# Altium integrated library Analog Devices RF IF Mixers and Multipliers.IntLib: 40 symbols (part 3 of 3)
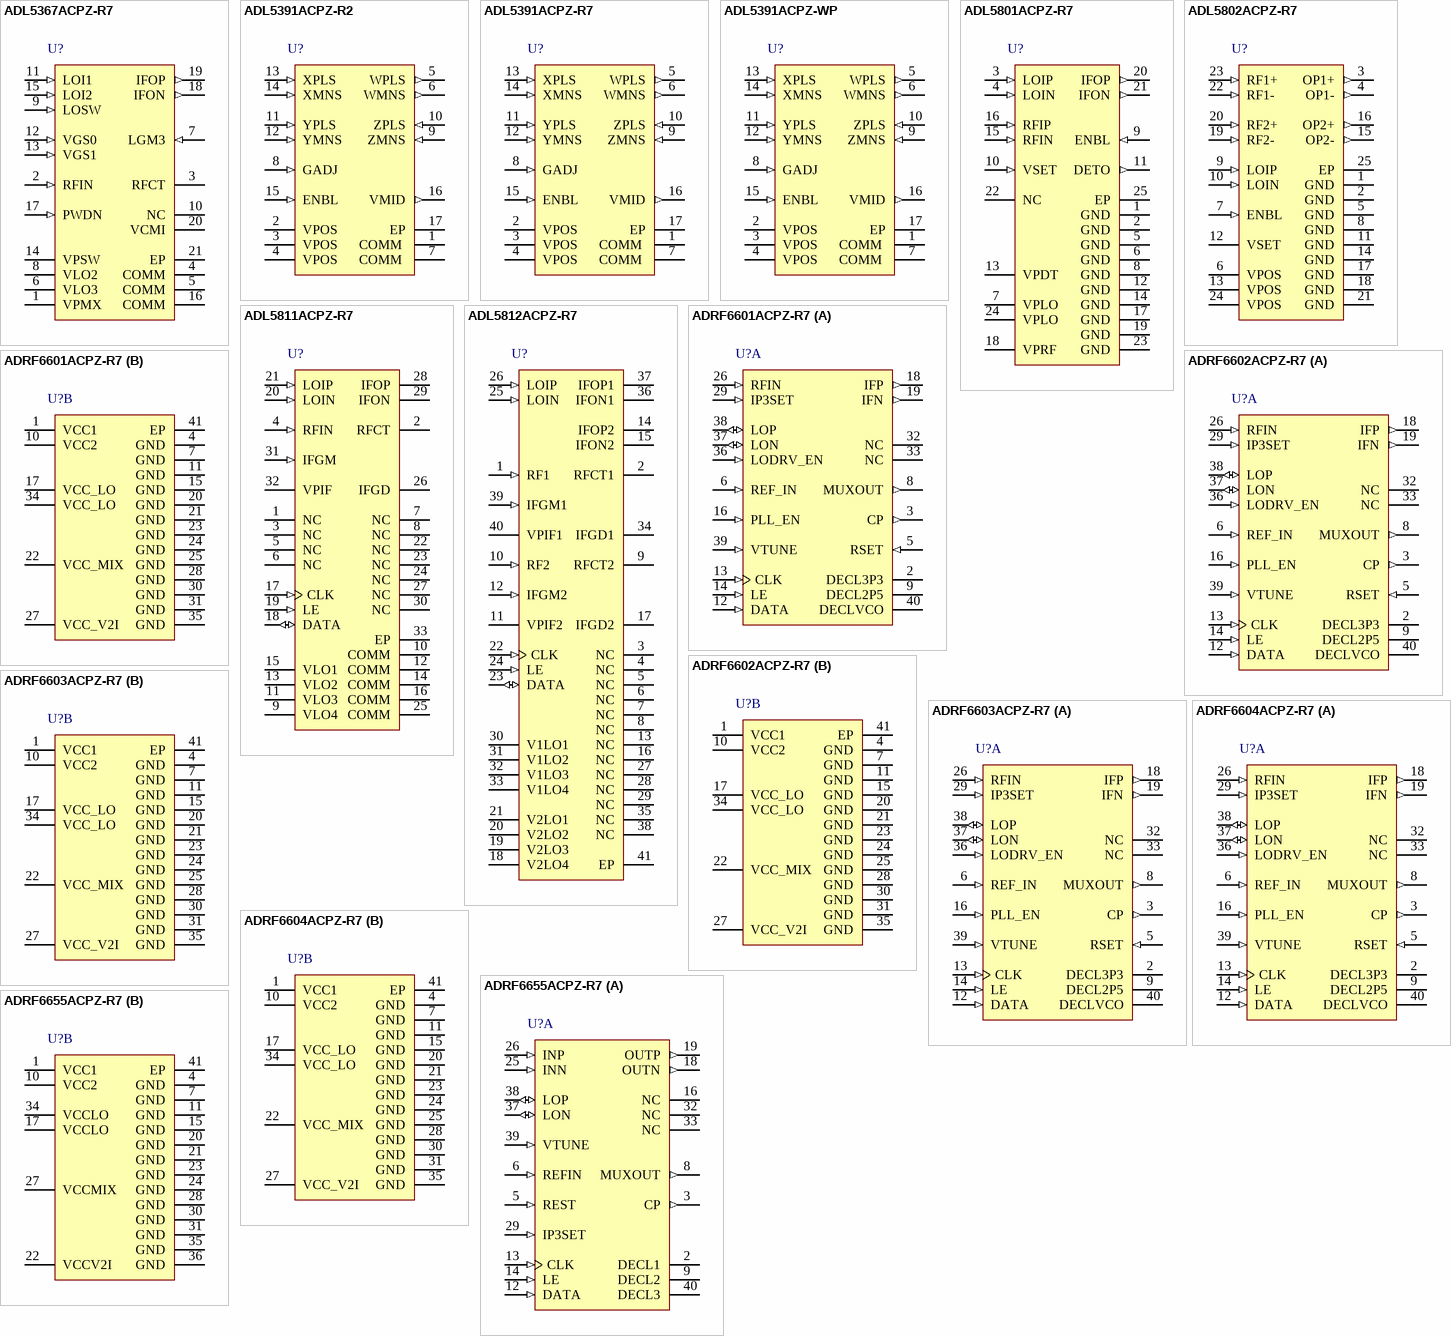
[diagram p3: symbols ADL5367ACPZ-R7 to ADRF6655ACPZ-R7]

## ADRF6602ACPZ-R7
designator U?
1550 MHz to 2150 MHz Rx Mixer with Integrated Fractional-N PLL and VCO, 6dB, 5.25V, 210mA, CP-40-1, Pb-Free, 750 Reel; RF Frequency (MHZ): 1000-3100; IF Frequency (MHz): dc to 500; LO Frequency (MHz): 1550 to 2150; IP3 (dBm): 29; P1dB (dBm): 12; NF (dB): 12dB; DatasheetVersion: Rev. C; PackageVersion: Oct-2006; PackageReference: CP-40-1; PackageDescription: 40-Lead Lead Frame Chip Scale Package [LFCSP_VQ]; Conversion Gain (dB): 6dB; Code_JEDEC: MO-220-VJJD-2; ComponentLink1Description: Manufacturer URL; ComponentLink1URL: www.analog.com; ComponentLink2Description: Datasheet; ComponentLink2URL: http://www.analog.com/static/imported-files/data_sheets/ADRF6602.pdf; ComponentLink3Description: Package Specification; ComponentLink3URL: http://www.analog.com/static/imported-files/packages/PKG_PDF/LFCSP(CP)/CP_40_1.pdf
footprint ADI-CP-40-1_N (QFN, 40-Leads, Body 6x6mm, Pitch 0.5mm, Thermal Pad 4.3x4.3mm, IPC Medium Density)
footprint ADI-CP-40-1_L (QFN, 40-Leads, Body 6x6mm, Pitch 0.5mm, Thermal Pad 4.3x4.3mm, IPC High Density)
footprint ADI-CP-40-1_M (QFN, 40-Leads, Body 6x6mm, Pitch 0.5mm, Thermal Pad 4.3x4.3mm, IPC Low Density)
part A pins: 2 DECL3P3 "Decoupling Node for the 3.3 V LDO. Connect a 0.1 uF capacitor between this pin and ground.", 3 CP (out) "Charge Pump Output Pin. Connect to VTUNE through the loop filter.", 5 RSET (in) "Charge Pump Current. The nominal charge pump current can be set to 250 uA, 500 uA, 750 uA, or 1 mA using Bit DB11 and Bit DB10 in Register 4 and by setting Bit DB18 in Register 4 to 0 (internal reference current). [see datasheet]", 6 REF_IN (in) "Reference Input. Nominal input level is 1 V p-p. Input range is 12 MHz to 160 MHz. This pin is internally dc- biased and should be ac-coupled.", 8 MUXOUT (out) "Multiplexer Output. This output can be programmed to provide the reference output signal or the lock detect signal. The output is selected by programming the appropriate register.", 9 DECL2P5 "Decoupling Node for 2.5 V LDO. Connect a 0.1 uF capacitor between this pin and ground.", 12 DATA (in) "Serial Data Input. The serial data input is loaded MSB first; the three LSBs are the control bits.", 13 CLK (in) "Serial Clock Input. The serial clock input is used to clock in the serial data to the registers. The datais latched into the 24-bit shift register on the CLK rising edge. [see datasheet]", 14 LE (in) "Load Enable. When the LE input pin goes high, the data stored in the shift register is loaded into one of the eight registers. [see datasheet]", 16 PLL_EN (in) "PLL Enable. Switch between internal PLL and external LO input. When this pin is logic high, themixer LO is automatically switched to the internal PLL and the internal PLL is powered up. [see datasheet]", 18 IFP (out) "Mixer IF Outputs. These outputs should be pulled to VCC_MIX with RF chokes.", 19 IFN (out) "Mixer IF Outputs. These outputs should be pulled to VCC_MIX with RF chokes.", 26 RFIN (in) "RF Input. Single-ended, 50 ohm.", 29 IP3SET (in) "Connect a resistor from this pin to a 5 V supply to adjust IIP3. Normally leave open.", 32 NC "NC = No Connect. Do not connect to this pin.", 33 NC "NC = No Connect. Do not connect to this pin.", 36 LODRV_EN (in) "LO Driver Enable. Together with Pin 16 (PLL_EN), this digital input pin determines whether the LOP and LON pins operate as inputs or outputs. [see datasheet]", 37 LON (io) "Local Oscillator Input/Output. The internally generated 1x LO is available on these pins. When internal LO generation is disabled, an external 1x LO can be applied to these pins.", 38 LOP (io) "Local Oscillator Input/Output. The internally generated 1x LO is available on these pins. When internal LO generation is disabled, an external 1x LO can be applied to these pins.", 39 VTUNE (in) "VCO Control Voltage Input. This pin is driven by the output of the loop filter. The nominal input voltage range on this pin is 1.5 V to 2.5 V.", 40 DECLVCO "Decoupling Node for VCO LDO. Connect a 100 pF capacitor and a 10 uF capacitor between this pin and ground."
part B pins: 1 VCC1 (power) "Power Supply for the 3.3 V LDO. Power supply voltage range is 4.75 V to 5.25 V. Each power supply pin should be decoupled with a 100 pF capacitor and a 0.1 uF capacitor located close to the pin", 4 GND (power) "Ground. Connect these pins to a low impedance ground plane.", 7 GND (power) "Ground. Connect these pins to a low impedance ground plane.", 10 VCC2 (power) "Power Supply for the 2.5 V LDO. Power supply voltage range is 4.75 V to 5.25 V. Each power supply pin should be decoupled with a 100 pF capacitor and a 0.1 uF capacitor located close to the pin. [see datasheet]", 11 GND (power) "Ground. Connect these pins to a low impedance ground plane.", 15 GND (power) "Ground. Connect these pins to a low impedance ground plane.", 17 VCC_LO (power) "Power Supply. Power supply voltage range is 4.75 V to 5.25 V. Each power supply pin should be decoupled with a 100 pF capacitor and a 0.1 uF capacitor located close to the pin.", 20 GND (power) "Ground. Connect these pins to a low impedance ground plane.", 21 GND (power) "Ground. Connect these pins to a low impedance ground plane.", 22 VCC_MIX (power) "Power Supply. Power supply voltage range is 4.75 V to 5.25 V. Each power supply pin should be decoupled with a 100 pF capacitor and a 0.1 uF capacitor located close to the pin.", 23 GND (power) "Ground. Connect these pins to a low impedance ground plane.", 24 GND (power) "Ground. Connect these pins to a low impedance ground plane.", 25 GND (power) "Ground. Connect these pins to a low impedance ground plane.", 27 VCC_V2I (power) "Power Supply. Power supply voltage range is 4.75 V to 5.25 V. Each power supply pin should be decoupled with a 100 pF capacitor and a 0.1 uF capacitor located close to the pin.", 28 GND (power) "Ground. Connect these pins to a low impedance ground plane.", 30 GND (power) "Ground. Connect these pins to a low impedance ground plane.", 31 GND (power) "Ground. Connect these pins to a low impedance ground plane.", 34 VCC_LO (power) "Power Supply. Power supply voltage range is 4.75 V to 5.25 V. Each power supply pin should be decoupled with a 100 pF capacitor and a 0.1 uF capacitor located close to the pin.", 35 GND (power) "Ground. Connect these pins to a low impedance ground plane.", 41 EP (power) "Exposed Paddle. The exposed paddle should be soldered to a low impedance ground plane."

## ADRF6603ACPZ-R7
designator U?
2100 MHz to 2600 MHz Rx Mixer with Integrated Fractional-N PLL and VCO, 6.9dB, 5.25V, 261mA, CP-40-1, Pb-Free, 750 Reel; RF Frequency (MHZ): 1100-3200; IF Frequency (MHz): dc to 500; LO Frequency (MHz): 2100 to 2600; IP3 (dBm): 27; P1dB (dBm): 14.6; NF (dB): 14.2dB; DatasheetVersion: Rev. A; PackageVersion: Oct-2006; PackageReference: CP-40-1; PackageDescription: 40-Lead Lead Frame Chip Scale Package [LFCSP_VQ]; Conversion Gain (dB): 6.9dB; Code_JEDEC: MO-220-VJJD-2; ComponentLink1Description: Manufacturer URL; ComponentLink1URL: www.analog.com; ComponentLink2Description: Datasheet; ComponentLink2URL: http://www.analog.com/static/imported-files/data_sheets/ADRF6603.pdf; ComponentLink3Description: Package Specification; ComponentLink3URL: http://www.analog.com/static/imported-files/packages/PKG_PDF/LFCSP(CP)/CP_40_1.pdf
footprint ADI-CP-40-1_N (QFN, 40-Leads, Body 6x6mm, Pitch 0.5mm, Thermal Pad 4.3x4.3mm, IPC Medium Density)
footprint ADI-CP-40-1_L (QFN, 40-Leads, Body 6x6mm, Pitch 0.5mm, Thermal Pad 4.3x4.3mm, IPC High Density)
footprint ADI-CP-40-1_M (QFN, 40-Leads, Body 6x6mm, Pitch 0.5mm, Thermal Pad 4.3x4.3mm, IPC Low Density)
part A pins: 2 DECL3P3 "Decoupling Node for the 3.3 V LDO. Connect a 0.1 uF capacitor between this pin and ground.", 3 CP (out) "Charge Pump Output Pin. Connect to VTUNE through the loop filter.", 5 RSET (in) "Charge Pump Current. The nominal charge pump current can be set to 250 uA, 500 uA, 750 uA, or 1 mA using Bit DB11 and Bit DB10 in Register 4 and by setting Bit DB18 in Register 4 to 0 (internal reference current). [see datasheet]", 6 REF_IN (in) "Reference Input. Nominal input level is 1 V p-p. Input range is 12 MHz to 160 MHz. This pin is internally dc- biased and should be ac-coupled.", 8 MUXOUT (out) "Multiplexer Output. This output can be programmed to provide the reference output signal or the lock detect signal. The output is selected by programming the appropriate register.", 9 DECL2P5 "Decoupling Node for 2.5 V LDO. Connect a 0.1 uF capacitor between this pin and ground.", 12 DATA (in) "Serial Data Input. The serial data input is loaded MSB first; the three LSBs are the control bits.", 13 CLK (in) "Serial Clock Input. The serial clock input is used to clock in the serial data to the registers. The datais latched into the 24-bit shift register on the CLK rising edge. [see datasheet]", 14 LE (in) "Load Enable. When the LE input pin goes high, the data stored in the shift register is loaded into one of the eight registers. [see datasheet]", 16 PLL_EN (in) "PLL Enable. Switch between internal PLL and external LO input. When this pin is logic high, themixer LO is automatically switched to the internal PLL and the internal PLL is powered up. [see datasheet]", 18 IFP (out) "Mixer IF Outputs. These outputs should be pulled to VCC_MIX with RF chokes.", 19 IFN (out) "Mixer IF Outputs. These outputs should be pulled to VCC_MIX with RF chokes.", 26 RFIN (in) "RF Input. Single-ended, 50 ohm.", 29 IP3SET (in) "Connect a resistor from this pin to a 5 V supply to adjust IIP3. Normally leave open.", 32 NC "NC = No Connect. Do not connect to this pin.", 33 NC "NC = No Connect. Do not connect to this pin.", 36 LODRV_EN (in) "LO Driver Enable. Together with Pin 16 (PLL_EN), this digital input pin determines whether the LOP and LON pins operate as inputs or outputs. [see datasheet]", 37 LON (io) "Local Oscillator Input/Output. The internally generated 1x LO is available on these pins. When internal LO generation is disabled, an external 1x LO can be applied to these pins.", 38 LOP (io) "Local Oscillator Input/Output. The internally generated 1x LO is available on these pins. When internal LO generation is disabled, an external 1x LO can be applied to these pins.", 39 VTUNE (in) "VCO Control Voltage Input. This pin is driven by the output of the loop filter. The nominal input voltage range on this pin is 1.5 V to 2.5 V.", 40 DECLVCO "Decoupling Node for VCO LDO. Connect a 100 pF capacitor and a 10 uF capacitor between this pin and ground."
part B pins: 1 VCC1 (power) "Power Supply for the 3.3 V LDO. Power supply voltage range is 4.75 V to 5.25 V. Each power supply pin should be decoupled with a 100 pF capacitor and a 0.1 uF capacitor located close to the pin", 4 GND (power) "Ground. Connect these pins to a low impedance ground plane.", 7 GND (power) "Ground. Connect these pins to a low impedance ground plane.", 10 VCC2 (power) "Power Supply for the 2.5 V LDO. Power supply voltage range is 4.75 V to 5.25 V. Each power supply pin should be decoupled with a 100 pF capacitor and a 0.1 uF capacitor located close to the pin. [see datasheet]", 11 GND (power) "Ground. Connect these pins to a low impedance ground plane.", 15 GND (power) "Ground. Connect these pins to a low impedance ground plane.", 17 VCC_LO (power) "Power Supply. Power supply voltage range is 4.75 V to 5.25 V. Each power supply pin should be decoupled with a 100 pF capacitor and a 0.1 uF capacitor located close to the pin.", 20 GND (power) "Ground. Connect these pins to a low impedance ground plane.", 21 GND (power) "Ground. Connect these pins to a low impedance ground plane.", 22 VCC_MIX (power) "Power Supply. Power supply voltage range is 4.75 V to 5.25 V. Each power supply pin should be decoupled with a 100 pF capacitor and a 0.1 uF capacitor located close to the pin.", 23 GND (power) "Ground. Connect these pins to a low impedance ground plane.", 24 GND (power) "Ground. Connect these pins to a low impedance ground plane.", 25 GND (power) "Ground. Connect these pins to a low impedance ground plane.", 27 VCC_V2I (power) "Power Supply. Power supply voltage range is 4.75 V to 5.25 V. Each power supply pin should be decoupled with a 100 pF capacitor and a 0.1 uF capacitor located close to the pin.", 28 GND (power) "Ground. Connect these pins to a low impedance ground plane.", 30 GND (power) "Ground. Connect these pins to a low impedance ground plane.", 31 GND (power) "Ground. Connect these pins to a low impedance ground plane.", 34 VCC_LO (power) "Power Supply. Power supply voltage range is 4.75 V to 5.25 V. Each power supply pin should be decoupled with a 100 pF capacitor and a 0.1 uF capacitor located close to the pin.", 35 GND (power) "Ground. Connect these pins to a low impedance ground plane.", 41 EP (power) "Exposed Paddle. The exposed paddle should be soldered to a low impedance ground plane."

## ADRF6604ACPZ-R7
designator U?
2500 MHz to 2900 MHz Rx Mixer with Integrated Fractional-N PLL and VCO, 6.3dB, 5.25V, 280mA, CP-40-1, Pb-Free, 750 Reel; RF Frequency (MHZ): 1200-3600; IF Frequency (MHz): dc to 500; LO Frequency (MHz): 2500 to 2900; LO Drive (dBm): 6; IP3 (dBm): 27.5; P1dB (dBm): 14.6; NF (dB): 14.2dB; DatasheetVersion: Rev. A; PackageVersion: Oct-2006; PackageReference: CP-40-1; PackageDescription: 40-Lead Lead Frame Chip Scale Package [LFCSP_VQ]; Conversion Gain (dB): 6.3dB; Code_JEDEC: MO-220-VJJD-2; ComponentLink1Description: Manufacturer URL; ComponentLink1URL: www.analog.com; ComponentLink2Description: Datasheet; ComponentLink2URL: http://www.analog.com/static/imported-files/data_sheets/ADRF6604.pdf; ComponentLink3Description: Package Specification; ComponentLink3URL: http://www.analog.com/static/imported-files/packages/PKG_PDF/LFCSP(CP)/CP_40_1.pdf
footprint ADI-CP-40-1_N (QFN, 40-Leads, Body 6x6mm, Pitch 0.5mm, Thermal Pad 4.3x4.3mm, IPC Medium Density)
footprint ADI-CP-40-1_L (QFN, 40-Leads, Body 6x6mm, Pitch 0.5mm, Thermal Pad 4.3x4.3mm, IPC High Density)
footprint ADI-CP-40-1_M (QFN, 40-Leads, Body 6x6mm, Pitch 0.5mm, Thermal Pad 4.3x4.3mm, IPC Low Density)
part A pins: 2 DECL3P3 "Decoupling Node for the 3.3 V LDO. Connect a 0.1 uF capacitor between this pin and ground.", 3 CP (out) "Charge Pump Output Pin. Connect to VTUNE through the loop filter.", 5 RSET (in) "Charge Pump Current. The nominal charge pump current can be set to 250 uA, 500 uA, 750 uA, or 1 mA using Bit DB11 and Bit DB10 in Register 4 and by setting Bit DB18 in Register 4 to 0 (internal reference current). [see datasheet]", 6 REF_IN (in) "Reference Input. Nominal input level is 1 V p-p. Input range is 12 MHz to 160 MHz. This pin is internally dc- biased and should be ac-coupled.", 8 MUXOUT (out) "Multiplexer Output. This output can be programmed to provide the reference output signal or the lock detect signal. The output is selected by programming the appropriate register.", 9 DECL2P5 "Decoupling Node for 2.5 V LDO. Connect a 0.1 uF capacitor between this pin and ground.", 12 DATA (in) "Serial Data Input. The serial data input is loaded MSB first; the three LSBs are the control bits.", 13 CLK (in) "Serial Clock Input. The serial clock input is used to clock in the serial data to the registers. The datais latched into the 24-bit shift register on the CLK rising edge. [see datasheet]", 14 LE (in) "Load Enable. When the LE input pin goes high, the data stored in the shift register is loaded into one of the eight registers. [see datasheet]", 16 PLL_EN (in) "PLL Enable. Switch between internal PLL and external LO input. When this pin is logic high, themixer LO is automatically switched to the internal PLL and the internal PLL is powered up. [see datasheet]", 18 IFP (out) "Mixer IF Outputs. These outputs should be pulled to VCC_MIX with RF chokes.", 19 IFN (out) "Mixer IF Outputs. These outputs should be pulled to VCC_MIX with RF chokes.", 26 RFIN (in) "RF Input. Single-ended, 50 ohm.", 29 IP3SET (in) "Connect a resistor from this pin to a 5 V supply to adjust IIP3. Normally leave open.", 32 NC "NC = No Connect. Do not connect to this pin.", 33 NC "NC = No Connect. Do not connect to this pin.", 36 LODRV_EN (in) "LO Driver Enable. Together with Pin 16 (PLL_EN), this digital input pin determines whether the LOP and LON pins operate as inputs or outputs. [see datasheet]", 37 LON (io) "Local Oscillator Input/Output. The internally generated 1x LO is available on these pins. When internal LO generation is disabled, an external 1x LO can be applied to these pins.", 38 LOP (io) "Local Oscillator Input/Output. The internally generated 1x LO is available on these pins. When internal LO generation is disabled, an external 1x LO can be applied to these pins.", 39 VTUNE (in) "VCO Control Voltage Input. This pin is driven by the output of the loop filter. The nominal input voltage range on this pin is 1.5 V to 2.5 V.", 40 DECLVCO "Decoupling Node for VCO LDO. Connect a 100 pF capacitor and a 10 uF capacitor between this pin and ground."
part B pins: 1 VCC1 (power) "Power Supply for the 3.3 V LDO. Power supply voltage range is 4.75 V to 5.25 V. Each power supply pin should be decoupled with a 100 pF capacitor and a 0.1 uF capacitor located close to the pin", 4 GND (power) "Ground. Connect these pins to a low impedance ground plane.", 7 GND (power) "Ground. Connect these pins to a low impedance ground plane.", 10 VCC2 (power) "Power Supply for the 2.5 V LDO. Power supply voltage range is 4.75 V to 5.25 V. Each power supply pin should be decoupled with a 100 pF capacitor and a 0.1 uF capacitor located close to the pin. [see datasheet]", 11 GND (power) "Ground. Connect these pins to a low impedance ground plane.", 15 GND (power) "Ground. Connect these pins to a low impedance ground plane.", 17 VCC_LO (power) "Power Supply. Power supply voltage range is 4.75 V to 5.25 V. Each power supply pin should be decoupled with a 100 pF capacitor and a 0.1 uF capacitor located close to the pin.", 20 GND (power) "Ground. Connect these pins to a low impedance ground plane.", 21 GND (power) "Ground. Connect these pins to a low impedance ground plane.", 22 VCC_MIX (power) "Power Supply. Power supply voltage range is 4.75 V to 5.25 V. Each power supply pin should be decoupled with a 100 pF capacitor and a 0.1 uF capacitor located close to the pin.", 23 GND (power) "Ground. Connect these pins to a low impedance ground plane.", 24 GND (power) "Ground. Connect these pins to a low impedance ground plane.", 25 GND (power) "Ground. Connect these pins to a low impedance ground plane.", 27 VCC_V2I (power) "Power Supply. Power supply voltage range is 4.75 V to 5.25 V. Each power supply pin should be decoupled with a 100 pF capacitor and a 0.1 uF capacitor located close to the pin.", 28 GND (power) "Ground. Connect these pins to a low impedance ground plane.", 30 GND (power) "Ground. Connect these pins to a low impedance ground plane.", 31 GND (power) "Ground. Connect these pins to a low impedance ground plane.", 34 VCC_LO (power) "Power Supply. Power supply voltage range is 4.75 V to 5.25 V. Each power supply pin should be decoupled with a 100 pF capacitor and a 0.1 uF capacitor located close to the pin.", 35 GND (power) "Ground. Connect these pins to a low impedance ground plane.", 41 EP (power) "Exposed Paddle. The exposed paddle should be soldered to a low impedance ground plane."

## ADRF6655ACPZ-R7
designator U?
Broadband Up/Downconverting Mixer with Integrated Fractional-N PLL and VCO, 6dB, 5.25V, 285mA, CP-40-1, Pb-Free, 750 Reel; RF Frequency (MHZ): 100 to 2500; IF Frequency (MHz): LF to 2200; LO Frequency (MHz): 1050 to 2300; IP3 (dBm): 29; P1dB (dBm): 12; NF (dB): 12dB; DatasheetVersion: Rev. 0; PackageVersion: Oct-2006; PackageReference: CP-40-1; PackageDescription: 40-Lead Lead Frame Chip Scale Package [LFCSP_VQ]; Conversion Gain (dB): 6dB; Code_JEDEC: MO-220-VJJD-2; ComponentLink1Description: Manufacturer URL; ComponentLink1URL: www.analog.com; ComponentLink2Description: Datasheet; ComponentLink2URL: http://www.analog.com/static/imported-files/data_sheets/ADRF6655.pdf; ComponentLink3Description: Package Specification; ComponentLink3URL: http://www.analog.com/static/imported-files/packages/PKG_PDF/LFCSP(CP)/CP_40_1.pdf
footprint ADI-CP-40-1_N (QFN, 40-Leads, Body 6x6mm, Pitch 0.5mm, Thermal Pad 4.3x4.3mm, IPC Medium Density)
footprint ADI-CP-40-1_L (QFN, 40-Leads, Body 6x6mm, Pitch 0.5mm, Thermal Pad 4.3x4.3mm, IPC High Density)
footprint ADI-CP-40-1_M (QFN, 40-Leads, Body 6x6mm, Pitch 0.5mm, Thermal Pad 4.3x4.3mm, IPC Low Density)
part A pins: 2 DECL1 "Decoupling Node for 3.3 V LDO. Pin should be decoupled with 100 pF, 0.1 uF, and 10 uF capacitors located close to the pin.", 3 CP (out) "Charge Pump Output Pin. Connect this pin to VTUNE through the loop filter", 5 REST (in) "Charge Pump Current. The nominal charge pump current can be set to either 250 uA, 500 uA, 750 uA,  or 1 mA using DB10 and DB11 of Register 4 and by setting DB18 to 0 (internal reference current). [see datasheet]", 6 REFIN (in) "Reference Input. Nominal input level is 1 V p-p. Input range is 10 MHz to 160 MHz. This pin must be  ac-coupled.", 8 MUXOUT (out) "Multiplexer Output. This output allows either a digital lock detect, a voltage proportional to temperature, or a buffered, frequency-scaled reference signal to be accessed externally. [see datasheet]", 9 DECL2 "Decoupling Node for 2.5 V LDO. Pin should be decoupled with 100 pF, 0.1 uF, and 10 uF capacitors located close to the pin.", 12 DATA (in) "Serial Data Input. The serial data input is loaded MSB first with the three LSBs being the control bits.", 13 CLK (in) "Serial Clock Input. This serial clock input is used to clock in the serial data to the registers. The data  is latched into the 24-bit shift register on the CLK rising edge. [see datasheet]", 14 LE (in) "Load Enable. When the LE input pin goes high, the data stored in the shift registers is loaded into one of the six registers, the relevant latch being selected by the first three control bits of the 24-bit word. [see datasheet]", 16 NC "No Connection.", 18 OUTN (out) "Mixer IF Outputs. These pins should be pulled to VCC with RF chokes.", 19 OUTP (out) "Mixer IF Outputs. These pins should be pulled to VCC with RF chokes.", 25 INN (in) "Mixer RF Inputs. Differential RF Inputs. Internally matched to 50 ohm. This pin must be ac-coupled.", 26 INP (in) "Mixer RF Inputs. Differential RF Inputs. Internally matched to 50 ohm. This pin must be ac-coupled.", 29 IP3SET (in) "Connect Resistor to VCC to Adjust IP3.", 32 NC "No Connection.", 33 NC "No Connection.", 37 LON (io) "Local Oscillator Input/Output. The internally generated 1 x fLO is available on these pins. When internal LO generation is disabled, an external 2 x fLO or 3 x fLO (depending on divider selection) can be applied  to these pins. [see datasheet]", 38 LOP (io) "Local Oscillator Input/Output. The internally generated 1 x fLO is available on these pins. When internal LO generation is disabled, an external 2 x fLO or 3 x fLO (depending on divider selection) can be applied  to these pins. [see datasheet]", 39 VTUNE (in) "VCO Control Voltage Input. This pin is driven by the output of the loop filter. Nominal input voltage range on this pin is 1 V to 2.8 V.", 40 DECL3 "Decoupling Node for VCO LDO. Connect a 100 pF capacitor and a 10 uF capacitor between this pin  and ground."
part B pins: 1 VCC1 (power) "Power Supply for Internal 3.3 V LDO. The power supply voltage range is 4.75 V to 5.25 V. Supply pin should be decoupled with 100 pF and 0.1 uF capacitors located close to the pin.", 4 GND (power) "Ground. Connect these pins to a low impedance ground plane.", 7 GND (power) "Ground. Connect these pins to a low impedance ground plane.", 10 VCC2 (power) "Power Supply for Internal 2.5 V LDO. The power supply voltage range is 4.75 V to 5.25 V. Supply pin  should be decoupled with 100 pF and 0.1 uF capacitors located close to the pin.", 11 GND (power) "Ground. Connect these pins to a low impedance ground plane.", 15 GND (power) "Ground. Connect these pins to a low impedance ground plane.", 17 VCCLO (power) "Power Supply for LO Path. The power supply voltage range is 4.75 V to 5.25 V. Supply pin should be decoupled with 100 pF and 0.1 uF capacitors located close to the pin.", 20 GND (power) "Ground. Connect these pins to a low impedance ground plane.", 21 GND (power) "Ground. Connect these pins to a low impedance ground plane.", 22 VCCV2I (power) "Power Supply for Voltage to Current Input Stage. The power supply voltage range is 4.75 V to 5.25 V.  Supply pin should be decoupled with 100 pF and 0.1 uF capacitors located close to the pin.", 23 GND (power) "Ground. Connect these pins to a low impedance ground plane.", 24 GND (power) "Ground. Connect these pins to a low impedance ground plane.", 27 VCCMIX (power) "Power Supply for Mixer. The power supply voltage range is 4.75 V to 5.25 V. Supply pin should be  decoupled with 100 pF and 0.1 uF capacitors located close to the pin.", 28 GND (power) "Ground. Connect these pins to a low impedance ground plane.", 30 GND (power) "Ground. Connect these pins to a low impedance ground plane.", 31 GND (power) "Ground. Connect these pins to a low impedance ground plane.", 34 VCCLO (power) "Power Supply for LO Path. The power supply voltage range is 4.75 V to 5.25 V. Supply pin should be decoupled with 100 pF and 0.1 uF capacitors located close to the pin.", 35 GND (power) "Ground. Connect these pins to a low impedance ground plane.", 36 GND (power) "Ground. Connect these pins to a low impedance ground plane.", 41 EP (power) "The exposed paddle should be soldered to a low impedance ground plane."